# Altium schematic symbol library kmilo17pet-TI_MSP430.SchLib: 1463 symbols (part 73 of 130)
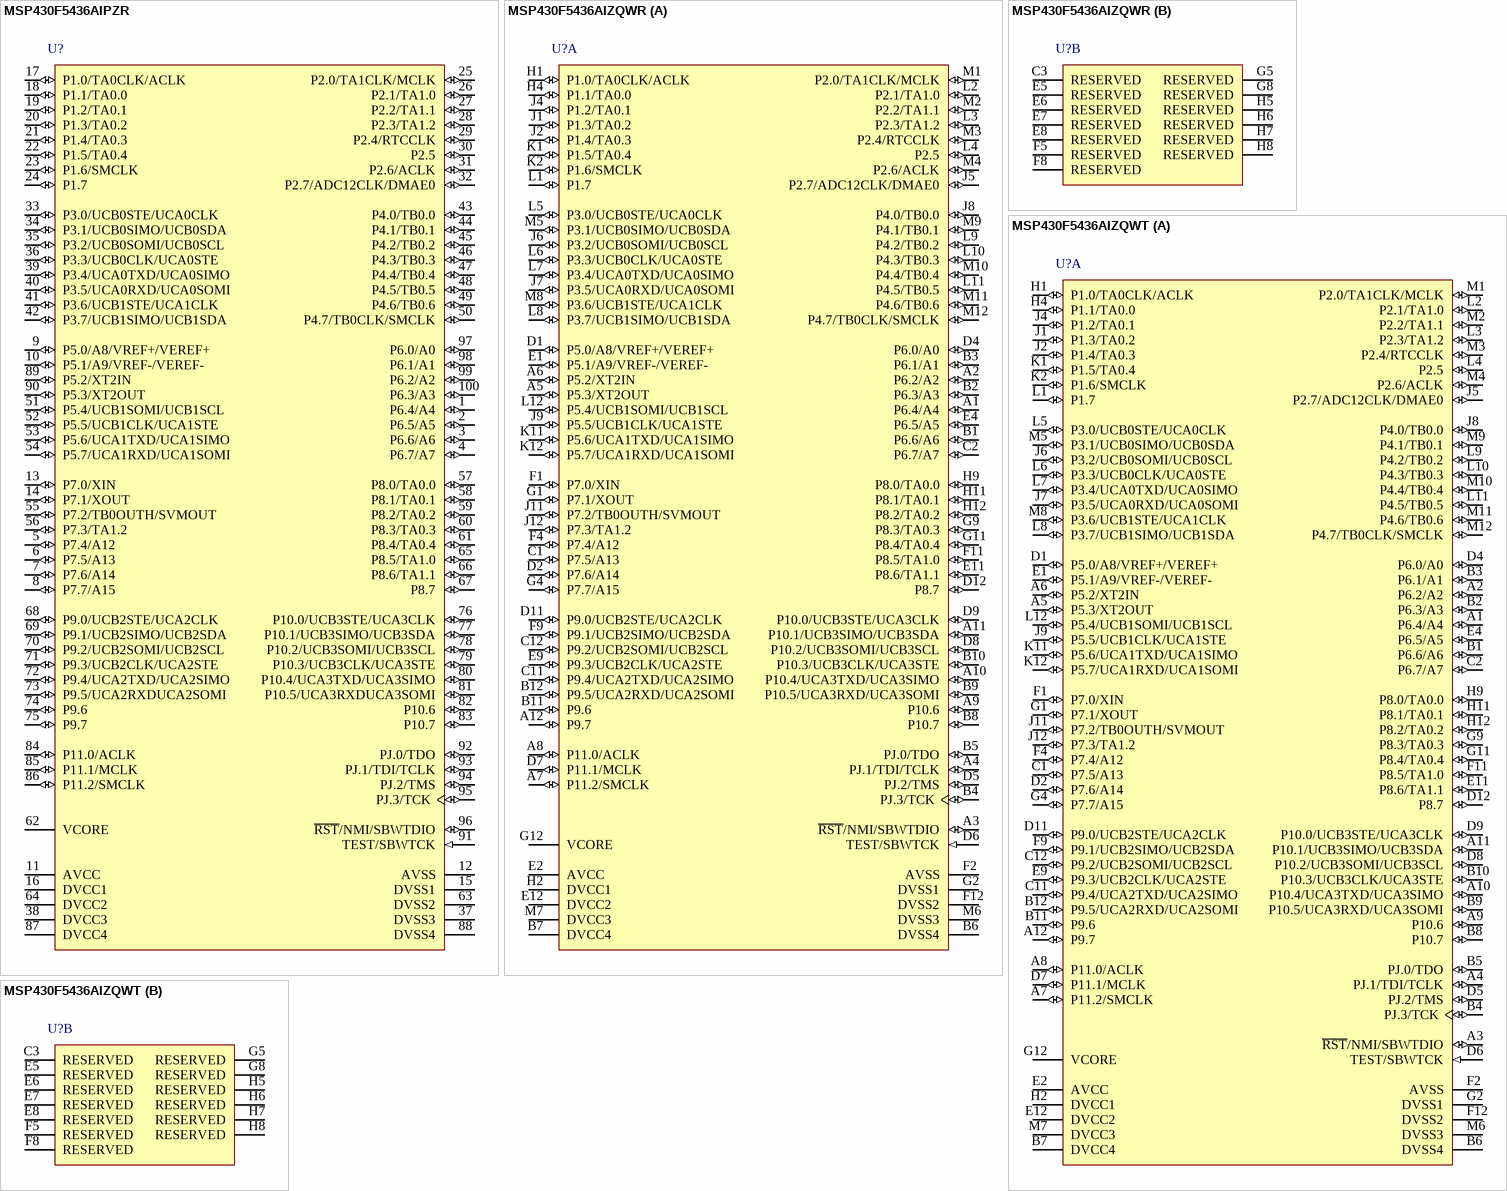
[diagram p272: symbols MSP430F5436AIPZR to MSP430F5436AIZQWT]

## MSP430F5436AIZQWT
designator U?
25 MHz Mixed Signal Microcontroller with 192 KB Flash, 16384 B SRAM and 87 GPIOs, -40 to 85 degC, 113-pin BGA (ZQW), Green (RoHS & no Sb/Br); Manufacturer: Texas Instruments; PartNumber: MSP430F5436AIZQWT; ADC: 12-bit SAR; ADC Channels: 16; Brown Out Reset: Yes; DMA: 3; Flash(KB): 192; Frequency(MHz): 25; GPIO: 87; Multiplier: 32x32; SRAM(B): 16384; SubFamily: 5 Series; USCI_A (UART/LIN/IrDA/SPI): 4; DatasheetVersion: SLAS655B; PackageVersion: 4204599-3/D; PackageReference: ZQW113; PackageDescription: 113-Pin Plastic Ball Grid Array Package, Body 7 x 7 mm, Pitch 0.5 mm; Supplier 1: Digi-Key; Supplier Part Number 1: MSP430F5436AIZQWR-ND; Supplier 2: Newark; Supplier Part Number 2: 68R9300; Supplier 3: Mouser; Supplier Part Number 3: 595-SP430F5436AIZQWR; Eco-Plan: Green (RoHS & no Sb/Br); Real-Time Clock: Yes; SVS: Yes; Temp Sensor: Yes; Timers - 16-bit: 3; USCI_B (I2C & SPI): 4; Watchdog: Yes; Mounting Technology: Surface Mount; Code_JEDEC: MO-225; ComponentLink1Description: Manufacturer URL; ComponentLink1URL: http://www.ti.com/; ComponentLink2Description: Datasheet; ComponentLink2URL: http://www.ti.com/general/docs/lit/getliterature.tsp?genericPartNumber=MSP430F5436A&fileType=pdf; ComponentLink3Description: Package Specification; ComponentLink3URL: http://www.ti.com/lit/ml/mpbg674/mpbg674.pdf
footprint TI-ZQW113 (BGA, 113-Balls, Body 7x7mm, Pitch 0.5mm)
part A pins: A1 P6.4/A4 (io), A2 P6.2/A2 (io), A3 ~{RST}/NMI/SBWTDIO (io), A4 PJ.1/TDI/TCLK (io), A5 P5.3/XT2OUT (io), A6 P5.2/XT2IN (io), A7 P11.2/SMCLK (io), A8 P11.0/ACLK (io), A9 P10.6 (io) "General-purpose digital I/O", A10 P10.4/UCA3TXD/UCA3SIMO (io), A11 P10.1/UCB3SIMO/UCB3SDA (io), A12 P9.7 (io) "General-purpose digital I/O", B1 P6.6/A6 (io), B2 P6.3/A3 (io), B3 P6.1/A1 (io), B4 PJ.3/TCK (io), B5 PJ.0/TDO (io), B6 DVSS4 (power) "Digital ground supply", B7 DVCC4 (power) "Digital power supply", B8 P10.7 (io) "General-purpose digital I/O", B9 P10.5/UCA3RXD/UCA3SOMI (io), B10 P10.3/UCB3CLK/UCA3STE (io), B11 P9.6 (io) "General-purpose digital I/O", B12 P9.5/UCA2RXD/UCA2SOMI (io), C1 P7.5/A13 (io), C2 P6.7/A7 (io), C11 P9.4/UCA2TXD/UCA2SIMO (io), C12 P9.2/UCB2SOMI/UCB2SCL (io), D1 P5.0/A8/VREF+/VEREF+ (io), D2 P7.6/A14 (io), D4 P6.0/A0 (io), D5 PJ.2/TMS (io), D6 TEST/SBWTCK (in), D7 P11.1/MCLK (io), D8 P10.2/UCB3SOMI/UCB3SCL (io), D9 P10.0/UCB3STE/UCA3CLK (io), D11 P9.0/UCB2STE/UCA2CLK (io), D12 P8.7 (io) "General-purpose digital I/O", E1 P5.1/A9/VREF-/VEREF- (io), E2 AVCC (power) "Analog power supply", E4 P6.5/A5 (io), E9 P9.3/UCB2CLK/UCA2STE (io), E11 P8.6/TA1.1 (io), E12 DVCC2 (power) "Digital power supply", F1 P7.0/XIN (io), F2 AVSS (power) "Analog ground supply", F4 P7.4/A12 (io), F9 P9.1/UCB2SIMO/UCB2SDA (io), F11 P8.5/TA1.0 (io), F12 DVSS2 (power) "Digital ground supply", G1 P7.1/XOUT (io), G2 DVSS1 (power) "Digital ground supply", G4 P7.7/A15 (io), G9 P8.3/TA0.3 (io), G11 P8.4/TA0.4 (io), G12 VCORE "Regulated core power supply output (internal usage only, no external current loading)", H1 P1.0/TA0CLK/ACLK (io), H2 DVCC1 (power) "Digital power supply", H4 P1.1/TA0.0 (io), H9 P8.0/TA0.0 (io), H11 P8.1/TA0.1 (io), H12 P8.2/TA0.2 (io), J1 P1.3/TA0.2 (io), J2 P1.4/TA0.3 (io), J4 P1.2/TA0.1 (io), J5 P2.7/ADC12CLK/DMAE0 (io), J6 P3.2/UCB0SOMI/UCB0SCL (io), J7 P3.5/UCA0RXD/UCA0SOMI (io), J8 P4.0/TB0.0 (io), J9 P5.5/UCB1CLK/UCA1STE (io), J11 P7.2/TB0OUTH/SVMOUT (io), J12 P7.3/TA1.2 (io), K1 P1.5/TA0.4 (io), K2 P1.6/SMCLK (io), K11 P5.6/UCA1TXD/UCA1SIMO (io), K12 P5.7/UCA1RXD/UCA1SOMI (io), L1 P1.7 (io) "General-purpose digital I/O", L2 P2.1/TA1.0 (io), L3 P2.3/TA1.2 (io), L4 P2.5 (io) "General-purpose digital I/O", L5 P3.0/UCB0STE/UCA0CLK (io), L6 P3.3/UCB0CLK/UCA0STE (io), L7 P3.4/UCA0TXD/UCA0SIMO (io), L8 P3.7/UCB1SIMO/UCB1SDA (io), L9 P4.2/TB0.2 (io), L10 P4.3/TB0.3 (io), L11 P4.5/TB0.5 (io), L12 P5.4/UCB1SOMI/UCB1SCL (io), M1 P2.0/TA1CLK/MCLK (io), M2 P2.2/TA1.1 (io), M3 P2.4/RTCCLK (io), M4 P2.6/ACLK (io), M5 P3.1/UCB0SIMO/UCB0SDA (io), M6 DVSS3 (power) "Digital ground supply", M7 DVCC3 (power) "Digital power supply", M8 P3.6/UCB1STE/UCA1CLK (io), M9 P4.1/TB0.1 (io), M10 P4.4/TB0.4 (io), M11 P4.6/TB0.6 (io), M12 P4.7/TB0CLK/SMCLK (io)
part B pins: C3 RESERVED "Reserved and should be connected to ground.", E5 RESERVED "Reserved and should be connected to ground.", E6 RESERVED "Reserved and should be connected to ground.", E7 RESERVED "Reserved and should be connected to ground.", E8 RESERVED "Reserved and should be connected to ground.", F5 RESERVED "Reserved and should be connected to ground.", F8 RESERVED "Reserved and should be connected to ground.", G5 RESERVED "Reserved and should be connected to ground.", G8 RESERVED "Reserved and should be connected to ground.", H5 RESERVED "Reserved and should be connected to ground.", H6 RESERVED "Reserved and should be connected to ground.", H7 RESERVED "Reserved and should be connected to ground.", H8 RESERVED "Reserved and should be connected to ground."

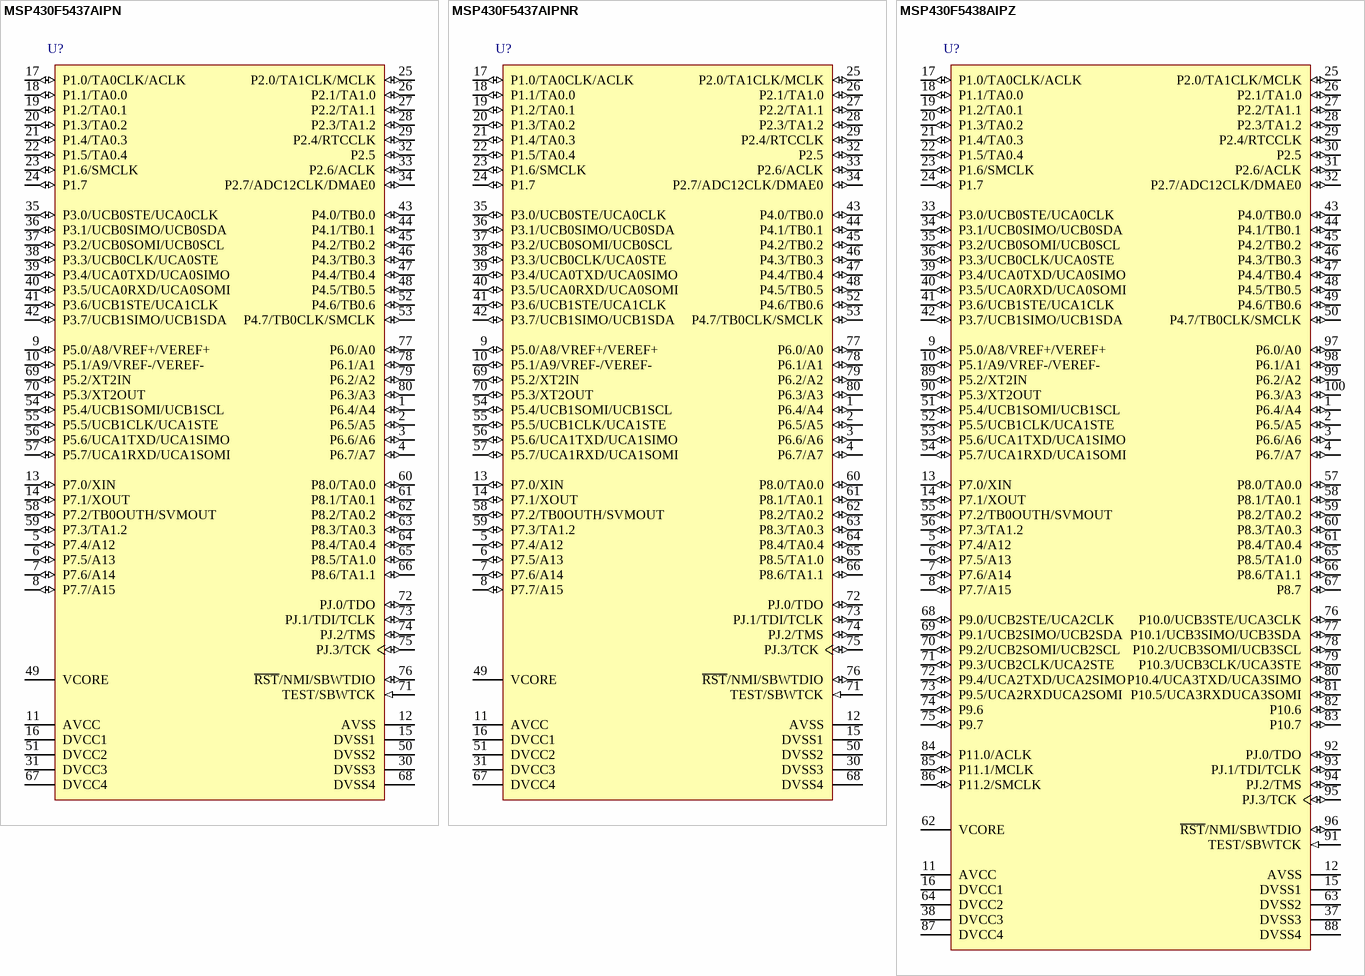
[diagram p111: symbols MSP430F5437AIPN to MSP430F5438AIPZ]

## MSP430F5437AIPN
designator U?
25 MHz Mixed Signal Microcontroller with 256 KB Flash, 16384 B SRAM and 67 GPIOs, -40 to 85 degC, 80-pin QFP (PN), Green (RoHS & no Sb/Br); Manufacturer: Texas Instruments; PartNumber: MSP430F5437AIPN; ADC: 12-bit SAR; ADC Channels: 16; Brown Out Reset: Yes; DMA: 3; Flash(KB): 256; Frequency(MHz): 25; GPIO: 67; Multiplier: 32x32; SRAM(B): 16384; SubFamily: 5 Series; USCI_A (UART/LIN/IrDA/SPI): 2; DatasheetVersion: SLAS655B; PackageReference: PN80; PackageDescription: 80-Pin Plastic Quad Flat Pack, Body 12 x 12 mm, Pitch 0.5 mm; Supplier 1: Digi-Key; Supplier Part Number 1: MSP430F5436AIZQWT-ND; Supplier 2: Newark; Supplier Part Number 2: 68R9301; Supplier 3: Mouser; Supplier Part Number 3: 595-SP430F5436AIZQWT; Eco-Plan: Green (RoHS & no Sb/Br); Real-Time Clock: Yes; SVS: Yes; Temp Sensor: Yes; Timers - 16-bit: 3; USCI_B (I2C & SPI): 2; Watchdog: Yes; Mounting Technology: Surface Mount; Code_JEDEC: MS-018; ComponentLink1Description: Manufacturer URL; ComponentLink1URL: http://www.ti.com/; ComponentLink2Description: Datasheet; ComponentLink2URL: http://www.ti.com/general/docs/lit/getliterature.tsp?genericPartNumber=MSP430F5437A&fileType=pdf; ComponentLink3Description: Package Specification; ComponentLink3URL: http://www.ti.com/lit/ml/mtqf010a/mtqf010a.pdf
footprint TI-PN80_N (QFP, 80-Leads, Body 12x12mm, Pitch 0.5mm, IPC Medium Density)
pins: 1 P6.4/A4 (io), 2 P6.5/A5 (io), 3 P6.6/A6 (io), 4 P6.7/A7 (io), 5 P7.4/A12 (io), 6 P7.5/A13 (io), 7 P7.6/A14 (io), 8 P7.7/A15 (io), 9 P5.0/A8/VREF+/VEREF+ (io), 10 P5.1/A9/VREF-/VEREF- (io), 11 AVCC (power) "Analog power supply", 12 AVSS (power) "Analog ground supply", 13 P7.0/XIN (io), 14 P7.1/XOUT (io), 15 DVSS1 (power) "Digital ground supply", 16 DVCC1 (power) "Digital power supply", 17 P1.0/TA0CLK/ACLK (io), 18 P1.1/TA0.0 (io), 19 P1.2/TA0.1 (io), 20 P1.3/TA0.2 (io), 21 P1.4/TA0.3 (io), 22 P1.5/TA0.4 (io), 23 P1.6/SMCLK (io), 24 P1.7 (io) "General-purpose digital I/O with port interrupt", 25 P2.0/TA1CLK/MCLK (io), 26 P2.1/TA1.0 (io), 27 P2.2/TA1.1 (io), 28 P2.3/TA1.2 (io), 29 P2.4/RTCCLK (io), 30 DVSS3 (power) "Digital ground supply", 31 DVCC3 (power) "Digital power supply", 32 P2.5 (io) "General-purpose digital I/O with port interrupt", 33 P2.6/ACLK (io), 34 P2.7/ADC12CLK/DMAE0 (io), 35 P3.0/UCB0STE/UCA0CLK (io), 36 P3.1/UCB0SIMO/UCB0SDA (io), 37 P3.2/UCB0SOMI/UCB0SCL (io), 38 P3.3/UCB0CLK/UCA0STE (io), 39 P3.4/UCA0TXD/UCA0SIMO (io), 40 P3.5/UCA0RXD/UCA0SOMI (io), 41 P3.6/UCB1STE/UCA1CLK (io), 42 P3.7/UCB1SIMO/UCB1SDA (io), 43 P4.0/TB0.0 (io), 44 P4.1/TB0.1 (io), 45 P4.2/TB0.2 (io), 46 P4.3/TB0.3 (io), 47 P4.4/TB0.4 (io), 48 P4.5/TB0.5 (io), 49 VCORE "Regulated core power supply output", 50 DVSS2 (power) "Digital ground supply", 51 DVCC2 (power) "Digital power supply", 52 P4.6/TB0.6 (io), 53 P4.7/TB0CLK/SMCLK (io), 54 P5.4/UCB1SOMI/UCB1SCL (io), 55 P5.5/UCB1CLK/UCA1STE (io), 56 P5.6/UCA1TXD/UCA1SIMO (io), 57 P5.7/UCA1RXD/UCA1SOMI (io), 58 P7.2/TB0OUTH/SVMOUT (io), 59 P7.3/TA1.2 (io), 60 P8.0/TA0.0 (io), 61 P8.1/TA0.1 (io), 62 P8.2/TA0.2 (io), 63 P8.3/TA0.3 (io), 64 P8.4/TA0.4 (io), 65 P8.5/TA1.0 (io), 66 P8.6/TA1.1 (io), 67 DVCC4 (power) "Digital power supply", 68 DVSS4 (power) "Digital ground supply", 69 P5.2/XT2IN (io), 70 P5.3/XT2OUT (io), 71 TEST/SBWTCK (in), 72 PJ.0/TDO (io), 73 PJ.1/TDI/TCLK (io), 74 PJ.2/TMS (io), 75 PJ.3/TCK (io), 76 ~{RST}/NMI/SBWTDIO (io), 77 P6.0/A0 (io), 78 P6.1/A1 (io), 79 P6.2/A2 (io), 80 P6.3/A3 (io)

## MSP430F5437AIPNR
designator U?
25 MHz Mixed Signal Microcontroller with 256 KB Flash, 16384 B SRAM and 67 GPIOs, -40 to 85 degC, 80-pin QFP (PN), Green (RoHS & no Sb/Br); Manufacturer: Texas Instruments; PartNumber: MSP430F5437AIPNR; ADC: 12-bit SAR; ADC Channels: 16; Brown Out Reset: Yes; DMA: 3; Flash(KB): 256; Frequency(MHz): 25; GPIO: 67; Multiplier: 32x32; SRAM(B): 16384; SubFamily: 5 Series; USCI_A (UART/LIN/IrDA/SPI): 2; DatasheetVersion: SLAS655B; PackageReference: PN80; PackageDescription: 80-Pin Plastic Quad Flat Pack, Body 12 x 12 mm, Pitch 0.5 mm; Supplier 1: Digi-Key; Supplier Part Number 1: 296-33440-5-ND; Supplier 2: Farnell; Supplier Part Number 2: 1903451; Supplier 3: Newark; Supplier Part Number 3: 58T4971; Supplier 4: Newark; Supplier Part Number 4: 68R9302; Supplier 5: Mouser; Supplier Part Number 5: 595-MSP430F5437AIPN; Eco-Plan: Green (RoHS & no Sb/Br); Real-Time Clock: Yes; SVS: Yes; Temp Sensor: Yes; Timers - 16-bit: 3; USCI_B (I2C & SPI): 2; Watchdog: Yes; Mounting Technology: Surface Mount; Code_JEDEC: MS-018; ComponentLink1Description: Manufacturer URL; ComponentLink1URL: http://www.ti.com/; ComponentLink2Description: Datasheet; ComponentLink2URL: http://www.ti.com/general/docs/lit/getliterature.tsp?genericPartNumber=MSP430F5437A&fileType=pdf; ComponentLink3Description: Package Specification; ComponentLink3URL: http://www.ti.com/lit/ml/mtqf010a/mtqf010a.pdf
footprint TI-PN80_N (QFP, 80-Leads, Body 12x12mm, Pitch 0.5mm, IPC Medium Density)
pins: 1 P6.4/A4 (io), 2 P6.5/A5 (io), 3 P6.6/A6 (io), 4 P6.7/A7 (io), 5 P7.4/A12 (io), 6 P7.5/A13 (io), 7 P7.6/A14 (io), 8 P7.7/A15 (io), 9 P5.0/A8/VREF+/VEREF+ (io), 10 P5.1/A9/VREF-/VEREF- (io), 11 AVCC (power) "Analog power supply", 12 AVSS (power) "Analog ground supply", 13 P7.0/XIN (io), 14 P7.1/XOUT (io), 15 DVSS1 (power) "Digital ground supply", 16 DVCC1 (power) "Digital power supply", 17 P1.0/TA0CLK/ACLK (io), 18 P1.1/TA0.0 (io), 19 P1.2/TA0.1 (io), 20 P1.3/TA0.2 (io), 21 P1.4/TA0.3 (io), 22 P1.5/TA0.4 (io), 23 P1.6/SMCLK (io), 24 P1.7 (io) "General-purpose digital I/O with port interrupt", 25 P2.0/TA1CLK/MCLK (io), 26 P2.1/TA1.0 (io), 27 P2.2/TA1.1 (io), 28 P2.3/TA1.2 (io), 29 P2.4/RTCCLK (io), 30 DVSS3 (power) "Digital ground supply", 31 DVCC3 (power) "Digital power supply", 32 P2.5 (io) "General-purpose digital I/O with port interrupt", 33 P2.6/ACLK (io), 34 P2.7/ADC12CLK/DMAE0 (io), 35 P3.0/UCB0STE/UCA0CLK (io), 36 P3.1/UCB0SIMO/UCB0SDA (io), 37 P3.2/UCB0SOMI/UCB0SCL (io), 38 P3.3/UCB0CLK/UCA0STE (io), 39 P3.4/UCA0TXD/UCA0SIMO (io), 40 P3.5/UCA0RXD/UCA0SOMI (io), 41 P3.6/UCB1STE/UCA1CLK (io), 42 P3.7/UCB1SIMO/UCB1SDA (io), 43 P4.0/TB0.0 (io), 44 P4.1/TB0.1 (io), 45 P4.2/TB0.2 (io), 46 P4.3/TB0.3 (io), 47 P4.4/TB0.4 (io), 48 P4.5/TB0.5 (io), 49 VCORE "Regulated core power supply output", 50 DVSS2 (power) "Digital ground supply", 51 DVCC2 (power) "Digital power supply", 52 P4.6/TB0.6 (io), 53 P4.7/TB0CLK/SMCLK (io), 54 P5.4/UCB1SOMI/UCB1SCL (io), 55 P5.5/UCB1CLK/UCA1STE (io), 56 P5.6/UCA1TXD/UCA1SIMO (io), 57 P5.7/UCA1RXD/UCA1SOMI (io), 58 P7.2/TB0OUTH/SVMOUT (io), 59 P7.3/TA1.2 (io), 60 P8.0/TA0.0 (io), 61 P8.1/TA0.1 (io), 62 P8.2/TA0.2 (io), 63 P8.3/TA0.3 (io), 64 P8.4/TA0.4 (io), 65 P8.5/TA1.0 (io), 66 P8.6/TA1.1 (io), 67 DVCC4 (power) "Digital power supply", 68 DVSS4 (power) "Digital ground supply", 69 P5.2/XT2IN (io), 70 P5.3/XT2OUT (io), 71 TEST/SBWTCK (in), 72 PJ.0/TDO (io), 73 PJ.1/TDI/TCLK (io), 74 PJ.2/TMS (io), 75 PJ.3/TCK (io), 76 ~{RST}/NMI/SBWTDIO (io), 77 P6.0/A0 (io), 78 P6.1/A1 (io), 79 P6.2/A2 (io), 80 P6.3/A3 (io)

## MSP430F5438AIPZ
designator U?
25 MHz Mixed Signal Microcontroller with 256 KB Flash, 16384 B SRAM and 87 GPIOs, -40 to 85 degC, 100-pin QFP (PZ), Green (RoHS & no Sb/Br); Manufacturer: Texas Instruments; PartNumber: MSP430F5438AIPZ; ADC: 12-bit SAR; ADC Channels: 16; Brown Out Reset: Yes; DMA: 3; Flash(KB): 256; Frequency(MHz): 25; GPIO: 87; Multiplier: 32x32; SRAM(B): 16384; SubFamily: 5 Series; USCI_A (UART/LIN/IrDA/SPI): 4; DatasheetVersion: SLAS655B; PackageVersion: 4040149/B; PackageReference: PZ100; PackageDescription: 100-Pin Plastic Flat Pack, Body 14 x 14 mm, Pitch 0.5 mm; Supplier 1: Digi-Key; Supplier Part Number 1: MSP430F5437AIPNR-ND; Supplier 2: Newark; Supplier Part Number 2: 68R9303; Supplier 3: Mouser; Supplier Part Number 3: 595-MSP430F5437AIPNR; Eco-Plan: Green (RoHS & no Sb/Br); Real-Time Clock: Yes; SVS: Yes; Temp Sensor: Yes; Timers - 16-bit: 3; USCI_B (I2C & SPI): 4; Watchdog: Yes; Mounting Technology: Surface Mount; Code_JEDEC: MS-026; ComponentLink1Description: Manufacturer URL; ComponentLink1URL: http://www.ti.com/; ComponentLink2Description: Datasheet; ComponentLink2URL: http://www.ti.com/general/docs/lit/getliterature.tsp?genericPartNumber=MSP430F5438A&fileType=pdf; ComponentLink3Description: Package Specification; ComponentLink3URL: http://www.ti.com/lit/ml/mtqf013a/mtqf013a.pdf
footprint TI-PZ100_N (QFP, 100-Leads, Body 14x14mm, Pitch 0.5mm, IPC Medium Density)
pins: 1 P6.4/A4 (io), 2 P6.5/A5 (io), 3 P6.6/A6 (io), 4 P6.7/A7 (io), 5 P7.4/A12 (io), 6 P7.5/A13 (io), 7 P7.6/A14 (io), 8 P7.7/A15 (io), 9 P5.0/A8/VREF+/VEREF+ (io), 10 P5.1/A9/VREF-/VEREF- (io), 11 AVCC (power) "Analog power supply", 12 AVSS (power) "Analog ground supply", 13 P7.0/XIN (io), 14 P7.1/XOUT (io), 15 DVSS1 (power) "Digital ground supply", 16 DVCC1 (power) "Digital power supply", 17 P1.0/TA0CLK/ACLK (io), 18 P1.1/TA0.0 (io), 19 P1.2/TA0.1 (io), 20 P1.3/TA0.2 (io), 21 P1.4/TA0.3 (io), 22 P1.5/TA0.4 (io), 23 P1.6/SMCLK (io), 24 P1.7 (io) "General-purpose digital I/O with port interrupt", 25 P2.0/TA1CLK/MCLK (io), 26 P2.1/TA1.0 (io), 27 P2.2/TA1.1 (io), 28 P2.3/TA1.2 (io), 29 P2.4/RTCCLK (io), 30 P2.5 (io) "General-purpose digital I/O with port interrupt", 31 P2.6/ACLK (io), 32 P2.7/ADC12CLK/DMAE0 (io), 33 P3.0/UCB0STE/UCA0CLK (io), 34 P3.1/UCB0SIMO/UCB0SDA (io), 35 P3.2/UCB0SOMI/UCB0SCL (io), 36 P3.3/UCB0CLK/UCA0STE (io), 37 DVSS3 (power) "Digital ground supply", 38 DVCC3 (power) "Digital power supply", 39 P3.4/UCA0TXD/UCA0SIMO (io), 40 P3.5/UCA0RXD/UCA0SOMI (io), 41 P3.6/UCB1STE/UCA1CLK (io), 42 P3.7/UCB1SIMO/UCB1SDA (io), 43 P4.0/TB0.0 (io), 44 P4.1/TB0.1 (io), 45 P4.2/TB0.2 (io), 46 P4.3/TB0.3 (io), 47 P4.4/TB0.4 (io), 48 P4.5/TB0.5 (io), 49 P4.6/TB0.6 (io), 50 P4.7/TB0CLK/SMCLK (io), 51 P5.4/UCB1SOMI/UCB1SCL (io), 52 P5.5/UCB1CLK/UCA1STE (io), 53 P5.6/UCA1TXD/UCA1SIMO (io), 54 P5.7/UCA1RXD/UCA1SOMI (io), 55 P7.2/TB0OUTH/SVMOUT (io), 56 P7.3/TA1.2 (io), 57 P8.0/TA0.0 (io), 58 P8.1/TA0.1 (io), 59 P8.2/TA0.2 (io), 60 P8.3/TA0.3 (io), 61 P8.4/TA0.4 (io), 62 VCORE "Regulated core power supply output (internal usage only, no external current loading)", 63 DVSS2 (power) "Digital ground supply", 64 DVCC2 (power) "Digital power supply", 65 P8.5/TA1.0 (io), 66 P8.6/TA1.1 (io), 67 P8.7 (io) "General-purpose digital I/O", 68 P9.0/UCB2STE/UCA2CLK (io), 69 P9.1/UCB2SIMO/UCB2SDA (io), 70 P9.2/UCB2SOMI/UCB2SCL (io), 71 P9.3/UCB2CLK/UCA2STE (io), 72 P9.4/UCA2TXD/UCA2SIMO (io), 73 P9.5/UCA2RXDUCA2SOMI (io), 74 P9.6 (io) "General-purpose digital I/O", 75 P9.7 (io) "General-purpose digital I/O", 76 P10.0/UCB3STE/UCA3CLK (io), 77 P10.1/UCB3SIMO/UCB3SDA (io), 78 P10.2/UCB3SOMI/UCB3SCL (io), 79 P10.3/UCB3CLK/UCA3STE (io), 80 P10.4/UCA3TXD/UCA3SIMO (io), 81 P10.5/UCA3RXDUCA3SOMI (io), 82 P10.6 (io) "General-purpose digital I/O", 83 P10.7 (io) "General-purpose digital I/O", 84 P11.0/ACLK (io), 85 P11.1/MCLK (io), 86 P11.2/SMCLK (io), 87 DVCC4 (power) "Digital power supply", 88 DVSS4 (power) "Digital ground supply", 89 P5.2/XT2IN (io), 90 P5.3/XT2OUT (io), 91 TEST/SBWTCK (in), 92 PJ.0/TDO (io), 93 PJ.1/TDI/TCLK (io), 94 PJ.2/TMS (io), 95 PJ.3/TCK (io), 96 ~{RST}/NMI/SBWTDIO (io), 97 P6.0/A0 (io), 98 P6.1/A1 (io), 99 P6.2/A2 (io), 100 P6.3/A3 (io)

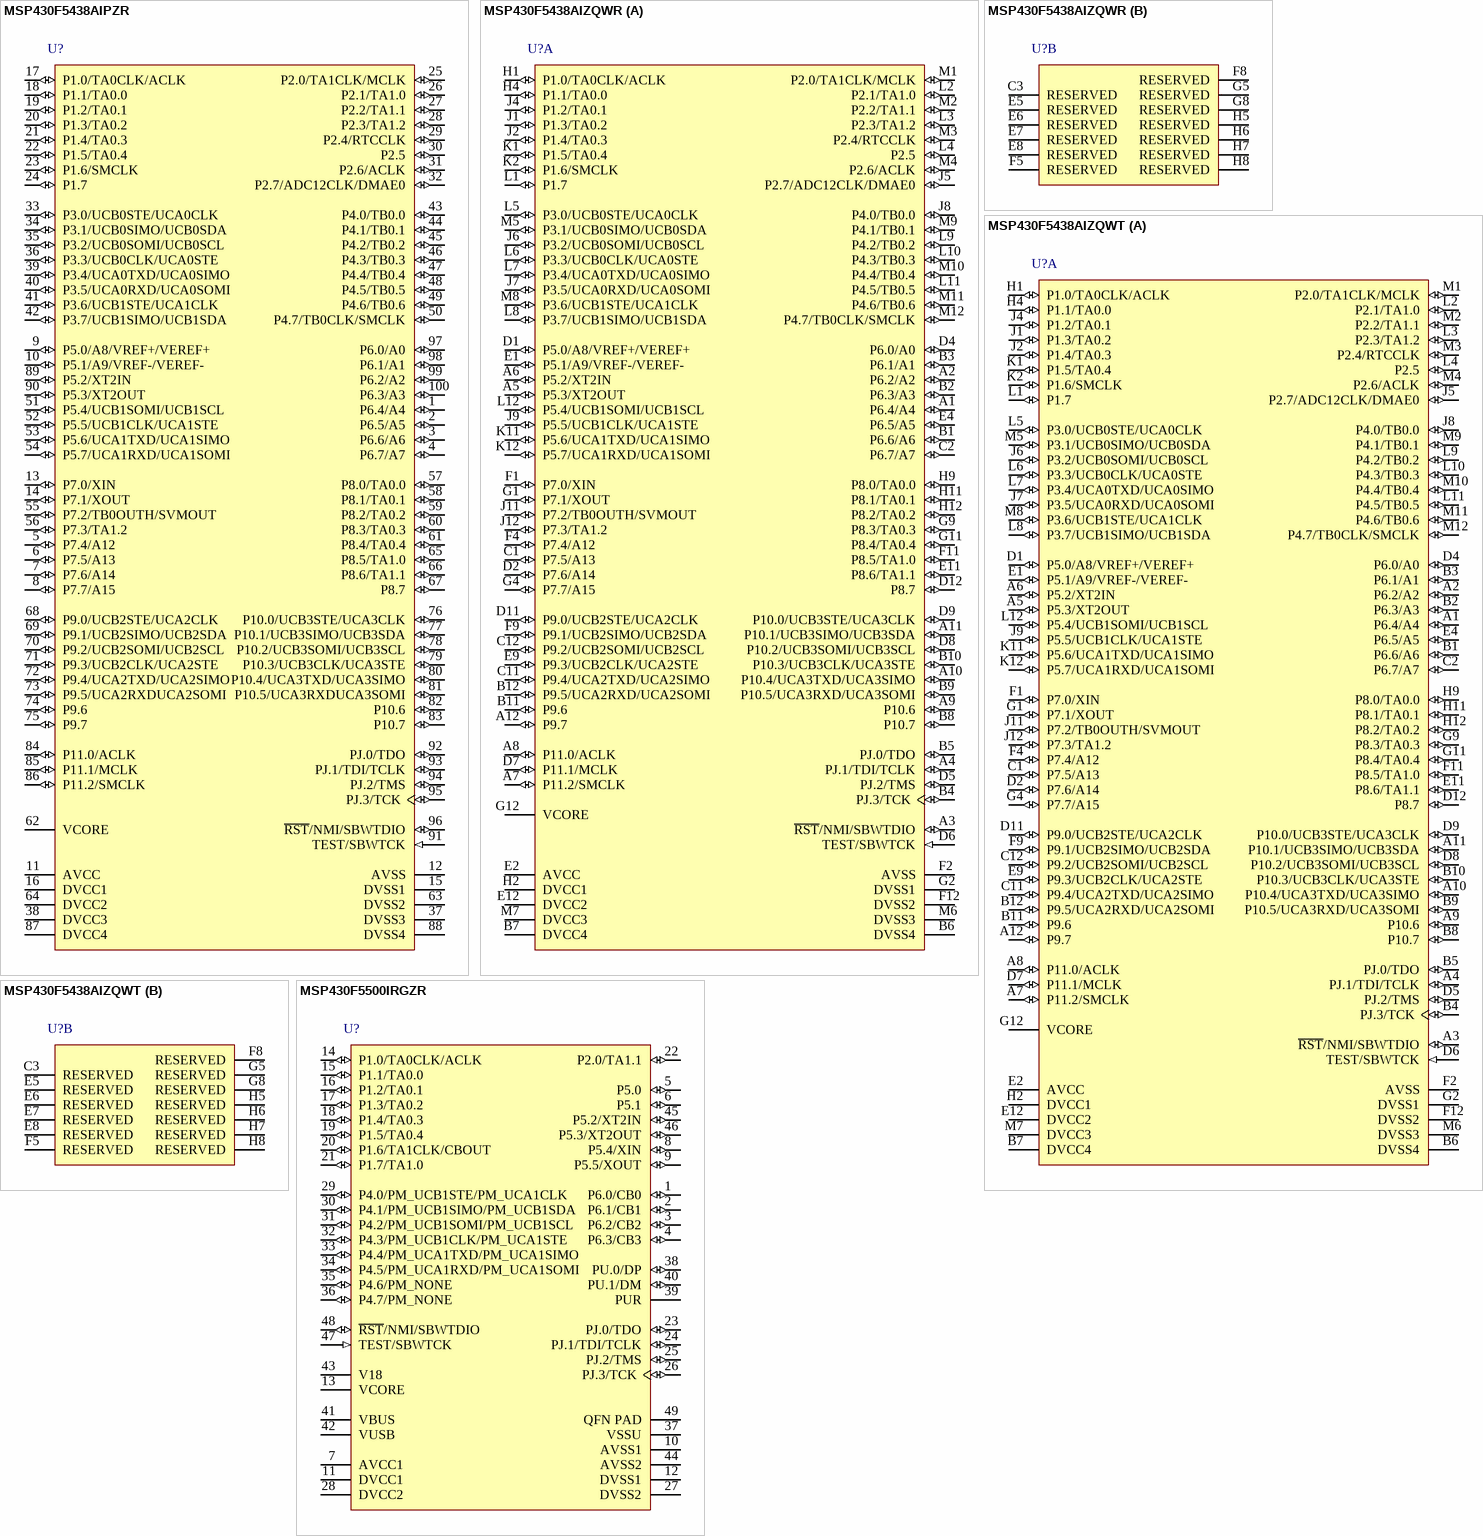
[diagram p112: symbols MSP430F5438AIPZR to MSP430F5500IRGZR]

## MSP430F5438AIPZR
designator U?
25 MHz Mixed Signal Microcontroller with 256 KB Flash, 16384 B SRAM and 87 GPIOs, -40 to 85 degC, 100-pin QFP (PZ), Green (RoHS & no Sb/Br); Manufacturer: Texas Instruments; PartNumber: MSP430F5438AIPZR; ADC: 12-bit SAR; ADC Channels: 16; Brown Out Reset: Yes; DMA: 3; Flash(KB): 256; Frequency(MHz): 25; GPIO: 87; Multiplier: 32x32; SRAM(B): 16384; SubFamily: 5 Series; USCI_A (UART/LIN/IrDA/SPI): 4; DatasheetVersion: SLAS655B; PackageVersion: 4040149/B; PackageReference: PZ100; PackageDescription: 100-Pin Plastic Flat Pack, Body 14 x 14 mm, Pitch 0.5 mm; Supplier 1: Digi-Key; Supplier Part Number 1: 296-30513-5-ND; Supplier 2: Farnell; Supplier Part Number 2: 1903452; Supplier 3: Newark; Supplier Part Number 3: 68R9304; Supplier 4: Mouser; Supplier Part Number 4: 595-MSP430F5438AIPZ; Eco-Plan: Green (RoHS & no Sb/Br); Real-Time Clock: Yes; SVS: Yes; Temp Sensor: Yes; Timers - 16-bit: 3; USCI_B (I2C & SPI): 4; Watchdog: Yes; Mounting Technology: Surface Mount; Code_JEDEC: MS-026; ComponentLink1Description: Manufacturer URL; ComponentLink1URL: http://www.ti.com/; ComponentLink2Description: Datasheet; ComponentLink2URL: http://www.ti.com/general/docs/lit/getliterature.tsp?genericPartNumber=MSP430F5438A&fileType=pdf; ComponentLink3Description: Package Specification; ComponentLink3URL: http://www.ti.com/lit/ml/mtqf013a/mtqf013a.pdf
footprint TI-PZ100_N (QFP, 100-Leads, Body 14x14mm, Pitch 0.5mm, IPC Medium Density)
pins: 1 P6.4/A4 (io), 2 P6.5/A5 (io), 3 P6.6/A6 (io), 4 P6.7/A7 (io), 5 P7.4/A12 (io), 6 P7.5/A13 (io), 7 P7.6/A14 (io), 8 P7.7/A15 (io), 9 P5.0/A8/VREF+/VEREF+ (io), 10 P5.1/A9/VREF-/VEREF- (io), 11 AVCC (power) "Analog power supply", 12 AVSS (power) "Analog ground supply", 13 P7.0/XIN (io), 14 P7.1/XOUT (io), 15 DVSS1 (power) "Digital ground supply", 16 DVCC1 (power) "Digital power supply", 17 P1.0/TA0CLK/ACLK (io), 18 P1.1/TA0.0 (io), 19 P1.2/TA0.1 (io), 20 P1.3/TA0.2 (io), 21 P1.4/TA0.3 (io), 22 P1.5/TA0.4 (io), 23 P1.6/SMCLK (io), 24 P1.7 (io) "General-purpose digital I/O with port interrupt", 25 P2.0/TA1CLK/MCLK (io), 26 P2.1/TA1.0 (io), 27 P2.2/TA1.1 (io), 28 P2.3/TA1.2 (io), 29 P2.4/RTCCLK (io), 30 P2.5 (io) "General-purpose digital I/O with port interrupt", 31 P2.6/ACLK (io), 32 P2.7/ADC12CLK/DMAE0 (io), 33 P3.0/UCB0STE/UCA0CLK (io), 34 P3.1/UCB0SIMO/UCB0SDA (io), 35 P3.2/UCB0SOMI/UCB0SCL (io), 36 P3.3/UCB0CLK/UCA0STE (io), 37 DVSS3 (power) "Digital ground supply", 38 DVCC3 (power) "Digital power supply", 39 P3.4/UCA0TXD/UCA0SIMO (io), 40 P3.5/UCA0RXD/UCA0SOMI (io), 41 P3.6/UCB1STE/UCA1CLK (io), 42 P3.7/UCB1SIMO/UCB1SDA (io), 43 P4.0/TB0.0 (io), 44 P4.1/TB0.1 (io), 45 P4.2/TB0.2 (io), 46 P4.3/TB0.3 (io), 47 P4.4/TB0.4 (io), 48 P4.5/TB0.5 (io), 49 P4.6/TB0.6 (io), 50 P4.7/TB0CLK/SMCLK (io), 51 P5.4/UCB1SOMI/UCB1SCL (io), 52 P5.5/UCB1CLK/UCA1STE (io), 53 P5.6/UCA1TXD/UCA1SIMO (io), 54 P5.7/UCA1RXD/UCA1SOMI (io), 55 P7.2/TB0OUTH/SVMOUT (io), 56 P7.3/TA1.2 (io), 57 P8.0/TA0.0 (io), 58 P8.1/TA0.1 (io), 59 P8.2/TA0.2 (io), 60 P8.3/TA0.3 (io), 61 P8.4/TA0.4 (io), 62 VCORE "Regulated core power supply output (internal usage only, no external current loading)", 63 DVSS2 (power) "Digital ground supply", 64 DVCC2 (power) "Digital power supply", 65 P8.5/TA1.0 (io), 66 P8.6/TA1.1 (io), 67 P8.7 (io) "General-purpose digital I/O", 68 P9.0/UCB2STE/UCA2CLK (io), 69 P9.1/UCB2SIMO/UCB2SDA (io), 70 P9.2/UCB2SOMI/UCB2SCL (io), 71 P9.3/UCB2CLK/UCA2STE (io), 72 P9.4/UCA2TXD/UCA2SIMO (io), 73 P9.5/UCA2RXDUCA2SOMI (io), 74 P9.6 (io) "General-purpose digital I/O", 75 P9.7 (io) "General-purpose digital I/O", 76 P10.0/UCB3STE/UCA3CLK (io), 77 P10.1/UCB3SIMO/UCB3SDA (io), 78 P10.2/UCB3SOMI/UCB3SCL (io), 79 P10.3/UCB3CLK/UCA3STE (io), 80 P10.4/UCA3TXD/UCA3SIMO (io), 81 P10.5/UCA3RXDUCA3SOMI (io), 82 P10.6 (io) "General-purpose digital I/O", 83 P10.7 (io) "General-purpose digital I/O", 84 P11.0/ACLK (io), 85 P11.1/MCLK (io), 86 P11.2/SMCLK (io), 87 DVCC4 (power) "Digital power supply", 88 DVSS4 (power) "Digital ground supply", 89 P5.2/XT2IN (io), 90 P5.3/XT2OUT (io), 91 TEST/SBWTCK (in), 92 PJ.0/TDO (io), 93 PJ.1/TDI/TCLK (io), 94 PJ.2/TMS (io), 95 PJ.3/TCK (io), 96 ~{RST}/NMI/SBWTDIO (io), 97 P6.0/A0 (io), 98 P6.1/A1 (io), 99 P6.2/A2 (io), 100 P6.3/A3 (io)

## MSP430F5438AIZQWR
designator U?
25 MHz Mixed Signal Microcontroller with 256 KB Flash, 16384 B SRAM and 87 GPIOs, -40 to 85 degC, 113-pin BGA (ZQW), Green (RoHS & no Sb/Br); Manufacturer: Texas Instruments; PartNumber: MSP430F5438AIZQWR; ADC: 12-bit SAR; ADC Channels: 16; Brown Out Reset: Yes; DMA: 3; Flash(KB): 256; Frequency(MHz): 25; GPIO: 87; Multiplier: 32x32; SRAM(B): 16384; SubFamily: 5 Series; USCI_A (UART/LIN/IrDA/SPI): 4; DatasheetVersion: SLAS655B; PackageVersion: 4204599-3/D; PackageReference: ZQW113; PackageDescription: 113-Pin Plastic Ball Grid Array Package, Body 7 x 7 mm, Pitch 0.5 mm; Supplier 1: Digi-Key; Supplier Part Number 1: MSP430F5438AIPZR-ND; Supplier 2: Newark; Supplier Part Number 2: 68R9305; Supplier 3: Mouser; Supplier Part Number 3: 595-MSP430F5438AIPZR; Eco-Plan: Green (RoHS & no Sb/Br); Real-Time Clock: Yes; SVS: Yes; Temp Sensor: Yes; Timers - 16-bit: 3; USCI_B (I2C & SPI): 4; Watchdog: Yes; Mounting Technology: Surface Mount; Code_JEDEC: MO-225; ComponentLink1Description: Manufacturer URL; ComponentLink1URL: http://www.ti.com/; ComponentLink2Description: Datasheet; ComponentLink2URL: http://www.ti.com/general/docs/lit/getliterature.tsp?genericPartNumber=MSP430F5438A&fileType=pdf; ComponentLink3Description: Package Specification; ComponentLink3URL: http://www.ti.com/lit/ml/mpbg674/mpbg674.pdf
footprint TI-ZQW113 (BGA, 113-Balls, Body 7x7mm, Pitch 0.5mm)
part A pins: A1 P6.4/A4 (io), A2 P6.2/A2 (io), A3 ~{RST}/NMI/SBWTDIO (io), A4 PJ.1/TDI/TCLK (io), A5 P5.3/XT2OUT (io), A6 P5.2/XT2IN (io), A7 P11.2/SMCLK (io), A8 P11.0/ACLK (io), A9 P10.6 (io) "General-purpose digital I/O", A10 P10.4/UCA3TXD/UCA3SIMO (io), A11 P10.1/UCB3SIMO/UCB3SDA (io), A12 P9.7 (io) "General-purpose digital I/O", B1 P6.6/A6 (io), B2 P6.3/A3 (io), B3 P6.1/A1 (io), B4 PJ.3/TCK (io), B5 PJ.0/TDO (io), B6 DVSS4 (power) "Digital ground supply", B7 DVCC4 (power) "Digital power supply", B8 P10.7 (io) "General-purpose digital I/O", B9 P10.5/UCA3RXD/UCA3SOMI (io), B10 P10.3/UCB3CLK/UCA3STE (io), B11 P9.6 (io) "General-purpose digital I/O", B12 P9.5/UCA2RXD/UCA2SOMI (io), C1 P7.5/A13 (io), C2 P6.7/A7 (io), C11 P9.4/UCA2TXD/UCA2SIMO (io), C12 P9.2/UCB2SOMI/UCB2SCL (io), D1 P5.0/A8/VREF+/VEREF+ (io), D2 P7.6/A14 (io), D4 P6.0/A0 (io), D5 PJ.2/TMS (io), D6 TEST/SBWTCK (in), D7 P11.1/MCLK (io), D8 P10.2/UCB3SOMI/UCB3SCL (io), D9 P10.0/UCB3STE/UCA3CLK (io), D11 P9.0/UCB2STE/UCA2CLK (io), D12 P8.7 (io) "General-purpose digital I/O", E1 P5.1/A9/VREF-/VEREF- (io), E2 AVCC (power) "Analog power supply", E4 P6.5/A5 (io), E9 P9.3/UCB2CLK/UCA2STE (io), E11 P8.6/TA1.1 (io), E12 DVCC2 (power) "Digital power supply", F1 P7.0/XIN (io), F2 AVSS (power) "Analog ground supply", F4 P7.4/A12 (io), F9 P9.1/UCB2SIMO/UCB2SDA (io), F11 P8.5/TA1.0 (io), F12 DVSS2 (power) "Digital ground supply", G1 P7.1/XOUT (io), G2 DVSS1 (power) "Digital ground supply", G4 P7.7/A15 (io), G9 P8.3/TA0.3 (io), G11 P8.4/TA0.4 (io), G12 VCORE "Regulated core power supply output (internal usage only, no external current loading)", H1 P1.0/TA0CLK/ACLK (io), H2 DVCC1 (power) "Digital power supply", H4 P1.1/TA0.0 (io), H9 P8.0/TA0.0 (io), H11 P8.1/TA0.1 (io), H12 P8.2/TA0.2 (io), J1 P1.3/TA0.2 (io), J2 P1.4/TA0.3 (io), J4 P1.2/TA0.1 (io), J5 P2.7/ADC12CLK/DMAE0 (io), J6 P3.2/UCB0SOMI/UCB0SCL (io), J7 P3.5/UCA0RXD/UCA0SOMI (io), J8 P4.0/TB0.0 (io), J9 P5.5/UCB1CLK/UCA1STE (io), J11 P7.2/TB0OUTH/SVMOUT (io), J12 P7.3/TA1.2 (io), K1 P1.5/TA0.4 (io), K2 P1.6/SMCLK (io), K11 P5.6/UCA1TXD/UCA1SIMO (io), K12 P5.7/UCA1RXD/UCA1SOMI (io), L1 P1.7 (io) "General-purpose digital I/O with port interrupt", L2 P2.1/TA1.0 (io), L3 P2.3/TA1.2 (io), L4 P2.5 (io) "General-purpose digital I/O with port interrupt", L5 P3.0/UCB0STE/UCA0CLK (io), L6 P3.3/UCB0CLK/UCA0STE (io), L7 P3.4/UCA0TXD/UCA0SIMO (io), L8 P3.7/UCB1SIMO/UCB1SDA (io), L9 P4.2/TB0.2 (io), L10 P4.3/TB0.3 (io), L11 P4.5/TB0.5 (io), L12 P5.4/UCB1SOMI/UCB1SCL (io), M1 P2.0/TA1CLK/MCLK (io), M2 P2.2/TA1.1 (io), M3 P2.4/RTCCLK (io), M4 P2.6/ACLK (io), M5 P3.1/UCB0SIMO/UCB0SDA (io), M6 DVSS3 (power) "Digital ground supply", M7 DVCC3 (power) "Digital power supply", M8 P3.6/UCB1STE/UCA1CLK (io), M9 P4.1/TB0.1 (io), M10 P4.4/TB0.4 (io), M11 P4.6/TB0.6 (io), M12 P4.7/TB0CLK/SMCLK (io)
part B pins: C3 RESERVED "Reserved and should be connected to ground.", E5 RESERVED "Reserved and should be connected to ground.", E6 RESERVED "Reserved and should be connected to ground.", E7 RESERVED "Reserved and should be connected to ground.", E8 RESERVED "Reserved and should be connected to ground.", F5 RESERVED "Reserved and should be connected to ground.", F8 RESERVED "Reserved and should be connected to ground.", G5 RESERVED "Reserved and should be connected to ground.", G8 RESERVED "Reserved and should be connected to ground.", H5 RESERVED "Reserved and should be connected to ground.", H6 RESERVED "Reserved and should be connected to ground.", H7 RESERVED "Reserved and should be connected to ground.", H8 RESERVED "Reserved and should be connected to ground."

## MSP430F5438AIZQWT
designator U?
25 MHz Mixed Signal Microcontroller with 256 KB Flash, 16384 B SRAM and 87 GPIOs, -40 to 85 degC, 113-pin BGA (ZQW), Green (RoHS & no Sb/Br); Manufacturer: Texas Instruments; PartNumber: MSP430F5438AIZQWT; ADC: 12-bit SAR; ADC Channels: 16; Brown Out Reset: Yes; DMA: 3; Flash(KB): 256; Frequency(MHz): 25; GPIO: 87; Multiplier: 32x32; SRAM(B): 16384; SubFamily: 5 Series; USCI_A (UART/LIN/IrDA/SPI): 4; DatasheetVersion: SLAS655B; PackageVersion: 4204599-3/D; PackageReference: ZQW113; PackageDescription: 113-Pin Plastic Ball Grid Array Package, Body 7 x 7 mm, Pitch 0.5 mm; Supplier 1: Digi-Key; Supplier Part Number 1: MSP430F5438AIZQWR-ND; Supplier 2: Newark; Supplier Part Number 2: 68R9306; Supplier 3: Mouser; Supplier Part Number 3: 595-SP430F5438AIZQWR; Eco-Plan: Green (RoHS & no Sb/Br); Real-Time Clock: Yes; SVS: Yes; Temp Sensor: Yes; Timers - 16-bit: 3; USCI_B (I2C & SPI): 4; Watchdog: Yes; Mounting Technology: Surface Mount; Code_JEDEC: MO-225; ComponentLink1Description: Manufacturer URL; ComponentLink1URL: http://www.ti.com/; ComponentLink2Description: Datasheet; ComponentLink2URL: http://www.ti.com/general/docs/lit/getliterature.tsp?genericPartNumber=MSP430F5438A&fileType=pdf; ComponentLink3Description: Package Specification; ComponentLink3URL: http://www.ti.com/lit/ml/mpbg674/mpbg674.pdf
footprint TI-ZQW113 (BGA, 113-Balls, Body 7x7mm, Pitch 0.5mm)
part A pins: A1 P6.4/A4 (io), A2 P6.2/A2 (io), A3 ~{RST}/NMI/SBWTDIO (io), A4 PJ.1/TDI/TCLK (io), A5 P5.3/XT2OUT (io), A6 P5.2/XT2IN (io), A7 P11.2/SMCLK (io), A8 P11.0/ACLK (io), A9 P10.6 (io) "General-purpose digital I/O", A10 P10.4/UCA3TXD/UCA3SIMO (io), A11 P10.1/UCB3SIMO/UCB3SDA (io), A12 P9.7 (io) "General-purpose digital I/O", B1 P6.6/A6 (io), B2 P6.3/A3 (io), B3 P6.1/A1 (io), B4 PJ.3/TCK (io), B5 PJ.0/TDO (io), B6 DVSS4 (power) "Digital ground supply", B7 DVCC4 (power) "Digital power supply", B8 P10.7 (io) "General-purpose digital I/O", B9 P10.5/UCA3RXD/UCA3SOMI (io), B10 P10.3/UCB3CLK/UCA3STE (io), B11 P9.6 (io) "General-purpose digital I/O", B12 P9.5/UCA2RXD/UCA2SOMI (io), C1 P7.5/A13 (io), C2 P6.7/A7 (io), C11 P9.4/UCA2TXD/UCA2SIMO (io), C12 P9.2/UCB2SOMI/UCB2SCL (io), D1 P5.0/A8/VREF+/VEREF+ (io), D2 P7.6/A14 (io), D4 P6.0/A0 (io), D5 PJ.2/TMS (io), D6 TEST/SBWTCK (in), D7 P11.1/MCLK (io), D8 P10.2/UCB3SOMI/UCB3SCL (io), D9 P10.0/UCB3STE/UCA3CLK (io), D11 P9.0/UCB2STE/UCA2CLK (io), D12 P8.7 (io) "General-purpose digital I/O", E1 P5.1/A9/VREF-/VEREF- (io), E2 AVCC (power) "Analog power supply", E4 P6.5/A5 (io), E9 P9.3/UCB2CLK/UCA2STE (io), E11 P8.6/TA1.1 (io), E12 DVCC2 (power) "Digital power supply", F1 P7.0/XIN (io), F2 AVSS (power) "Analog ground supply", F4 P7.4/A12 (io), F9 P9.1/UCB2SIMO/UCB2SDA (io), F11 P8.5/TA1.0 (io), F12 DVSS2 (power) "Digital ground supply", G1 P7.1/XOUT (io), G2 DVSS1 (power) "Digital ground supply", G4 P7.7/A15 (io), G9 P8.3/TA0.3 (io), G11 P8.4/TA0.4 (io), G12 VCORE "Regulated core power supply output (internal usage only, no external current loading)", H1 P1.0/TA0CLK/ACLK (io), H2 DVCC1 (power) "Digital power supply", H4 P1.1/TA0.0 (io), H9 P8.0/TA0.0 (io), H11 P8.1/TA0.1 (io), H12 P8.2/TA0.2 (io), J1 P1.3/TA0.2 (io), J2 P1.4/TA0.3 (io), J4 P1.2/TA0.1 (io), J5 P2.7/ADC12CLK/DMAE0 (io), J6 P3.2/UCB0SOMI/UCB0SCL (io), J7 P3.5/UCA0RXD/UCA0SOMI (io), J8 P4.0/TB0.0 (io), J9 P5.5/UCB1CLK/UCA1STE (io), J11 P7.2/TB0OUTH/SVMOUT (io), J12 P7.3/TA1.2 (io), K1 P1.5/TA0.4 (io), K2 P1.6/SMCLK (io), K11 P5.6/UCA1TXD/UCA1SIMO (io), K12 P5.7/UCA1RXD/UCA1SOMI (io), L1 P1.7 (io) "General-purpose digital I/O with port interrupt", L2 P2.1/TA1.0 (io), L3 P2.3/TA1.2 (io), L4 P2.5 (io) "General-purpose digital I/O with port interrupt", L5 P3.0/UCB0STE/UCA0CLK (io), L6 P3.3/UCB0CLK/UCA0STE (io), L7 P3.4/UCA0TXD/UCA0SIMO (io), L8 P3.7/UCB1SIMO/UCB1SDA (io), L9 P4.2/TB0.2 (io), L10 P4.3/TB0.3 (io), L11 P4.5/TB0.5 (io), L12 P5.4/UCB1SOMI/UCB1SCL (io), M1 P2.0/TA1CLK/MCLK (io), M2 P2.2/TA1.1 (io), M3 P2.4/RTCCLK (io), M4 P2.6/ACLK (io), M5 P3.1/UCB0SIMO/UCB0SDA (io), M6 DVSS3 (power) "Digital ground supply", M7 DVCC3 (power) "Digital power supply", M8 P3.6/UCB1STE/UCA1CLK (io), M9 P4.1/TB0.1 (io), M10 P4.4/TB0.4 (io), M11 P4.6/TB0.6 (io), M12 P4.7/TB0CLK/SMCLK (io)
part B pins: C3 RESERVED "Reserved and should be connected to ground.", E5 RESERVED "Reserved and should be connected to ground.", E6 RESERVED "Reserved and should be connected to ground.", E7 RESERVED "Reserved and should be connected to ground.", E8 RESERVED "Reserved and should be connected to ground.", F5 RESERVED "Reserved and should be connected to ground.", F8 RESERVED "Reserved and should be connected to ground.", G5 RESERVED "Reserved and should be connected to ground.", G8 RESERVED "Reserved and should be connected to ground.", H5 RESERVED "Reserved and should be connected to ground.", H6 RESERVED "Reserved and should be connected to ground.", H7 RESERVED "Reserved and should be connected to ground.", H8 RESERVED "Reserved and should be connected to ground."

## MSP430F5500IRGZR
designator U?
25 MHz Mixed Signal Microcontroller with 8 KB Flash, 4096 B SRAM and 31 GPIOs, -40 to 85 degC, 48-pin QFN (RGZ), Green (RoHS & no Sb/Br); Manufacturer: Texas Instruments; PartNumber: MSP430F5500IRGZR; Brown Out Reset: Yes; DMA: 3; Flash(KB): 8; Frequency(MHz): 25; GPIO: 31; Multiplier: 32x32; SRAM(B): 4096; SubFamily: 5 Series; Timers - 16-bit: 4; USB: 1; DatasheetVersion: SLAS645G; PackageVersion: 4204101/F; PackageReference: RGZ48-5150X5150TP; PackageDescription: 48-Pin Plastic Flat Pack, Body 7 x 7 mm, Pitch 0.5 mm; Supplier 1: Digi-Key; Supplier Part Number 1: 296-30375-2-ND; Supplier 2: Digi-Key; Supplier Part Number 2: 296-30375-1-ND; Supplier 3: Digi-Key; Supplier Part Number 3: 296-30375-6-ND; Supplier 4: Newark; Supplier Part Number 4: 68R9307; Supplier 5: Mouser; Supplier Part Number 5: 595-SP430F5438AIZQWT; Comparators: Yes; Eco-Plan: Green (RoHS & no Sb/Br); Real-Time Clock: Yes; SVS: Yes; USCI_A (UART/LIN/IrDA/SPI): 1; USCI_B (I2C & SPI): 1; Watchdog: Yes; Mounting Technology: Surface Mount; Code_JEDEC: MO-220; ComponentLink1Description: Manufacturer URL; ComponentLink1URL: http://www.ti.com/; ComponentLink2Description: Datasheet; ComponentLink2URL: http://www.ti.com/general/docs/lit/getliterature.tsp?genericPartNumber=MSP430F5500&fileType=pdf; ComponentLink3Description: Package Specification; ComponentLink3URL: http://www.ti.com/lit/ml/mpqf123e/mpqf123e.pdf
footprint TI-RGZ48-5150X5150TP_N (QFN, 48-Leads, Body 7x7mm, Pitch 0.5mm, Thermal Pad 5.15X5.15mm, IPC Medium Density)
pins: 1 P6.0/CB0 (io), 2 P6.1/CB1 (io), 3 P6.2/CB2 (io), 4 P6.3/CB3 (io), 5 P5.0 (io) "General-purpose digital I/O", 6 P5.1 (io) "General-purpose digital I/O", 7 AVCC1 (power) "Analog power supply", 8 P5.4/XIN (io), 9 P5.5/XOUT (io), 10 AVSS1 (power) "Analog ground supply", 11 DVCC1 (power) "Digital power supply", 12 DVSS1 (power) "Digital ground supply", 13 VCORE "Regulated core power supply output (internal use only, no external current loading)", 14 P1.0/TA0CLK/ACLK (io), 15 P1.1/TA0.0 (io), 16 P1.2/TA0.1 (io), 17 P1.3/TA0.2 (io), 18 P1.4/TA0.3 (io), 19 P1.5/TA0.4 (io), 20 P1.6/TA1CLK/CBOUT (io), 21 P1.7/TA1.0 (io), 22 P2.0/TA1.1 (io), 23 PJ.0/TDO (io), 24 PJ.1/TDI/TCLK (io), 25 PJ.2/TMS (io), 26 PJ.3/TCK (io), 27 DVSS2 (power) "Digital ground supply", 28 DVCC2 (power) "Digital power supply", 29 P4.0/PM_UCB1STE/PM_UCA1CLK (io), 30 P4.1/PM_UCB1SIMO/PM_UCB1SDA (io), 31 P4.2/PM_UCB1SOMI/PM_UCB1SCL (io), 32 P4.3/PM_UCB1CLK/PM_UCA1STE (io), 33 P4.4/PM_UCA1TXD/PM_UCA1SIMO (io), 34 P4.5/PM_UCA1RXD/PM_UCA1SOMI (io), 35 P4.6/PM_NONE (io), 36 P4.7/PM_NONE (io), 37 VSSU (power) "USB PHY ground supply", 38 PU.0/DP (io), 39 PUR "USB pullup resistor pin (open drain). The voltage level at the PUR pin is PUR 51 39 B7 I/O used to invoke the default USB BSL. Recommended 1-Mohm resistor to ground.", 40 PU.1/DM (io), 41 VBUS (power) "USB LDO input (connect to USB power source)", 42 VUSB (power) "USB LDO output", 43 V18 "USB regulated power (internal use only, no external current loading)", 44 AVSS2 (power) "Analog ground supply", 45 P5.2/XT2IN (io), 46 P5.3/XT2OUT (io), 47 TEST/SBWTCK (in), 48 ~{RST}/NMI/SBWTDIO (io), 49 QFN PAD (power) "Exposed QFN package pad. Connection to VSS recommended (not available on PT package devices)"

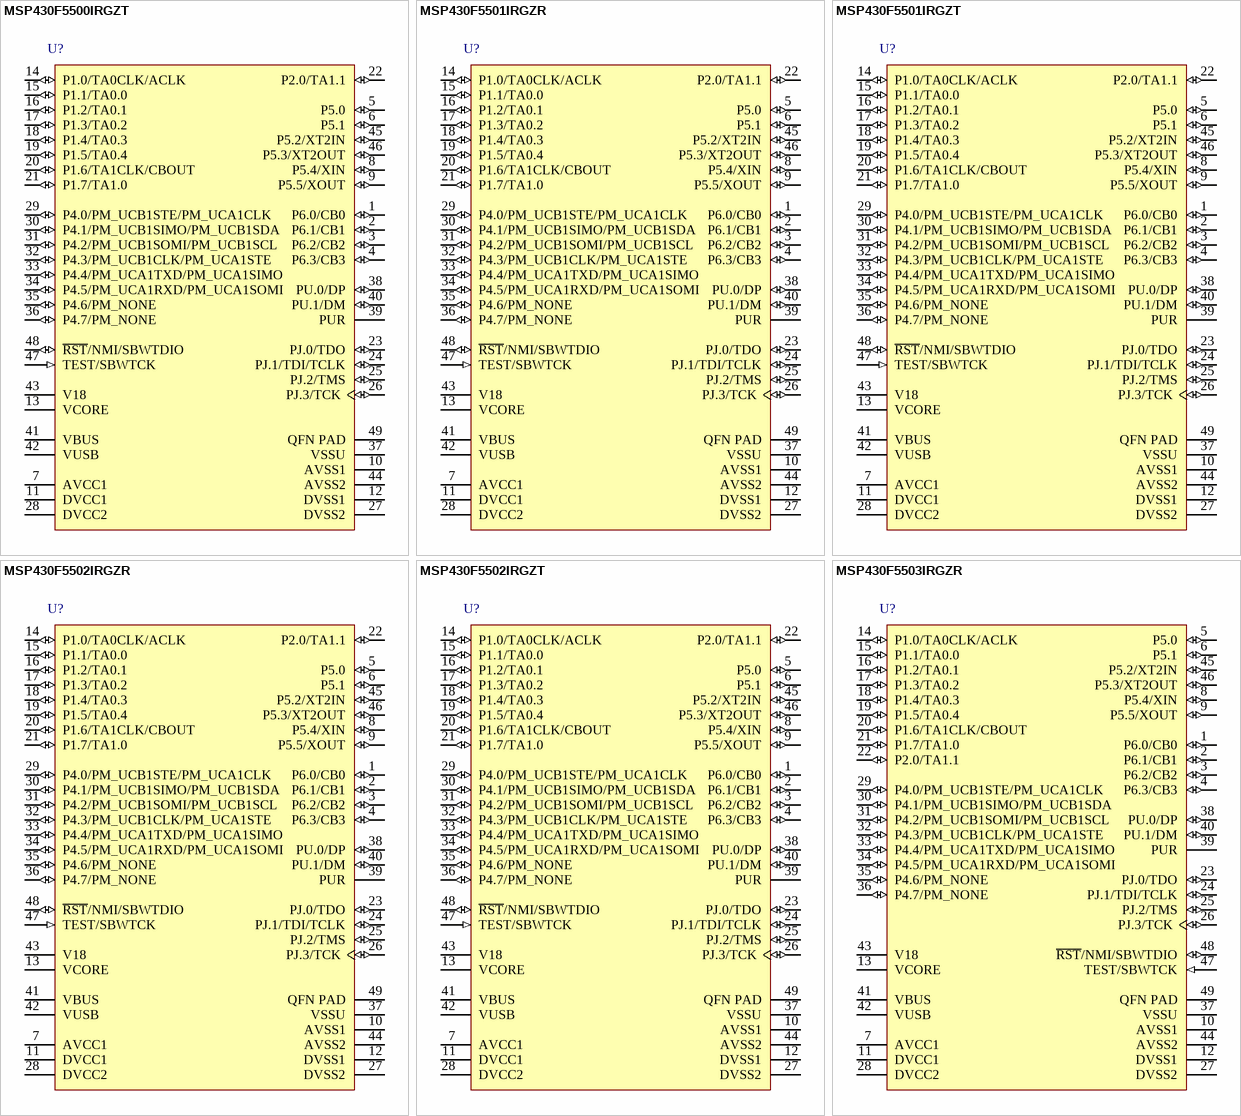
[diagram p113: symbols MSP430F5500IRGZT to MSP430F5503IRGZR]

## MSP430F5500IRGZT
designator U?
25 MHz Mixed Signal Microcontroller with 8 KB Flash, 4096 B SRAM and 31 GPIOs, -40 to 85 degC, 48-pin QFN (RGZ), Green (RoHS & no Sb/Br); Manufacturer: Texas Instruments; PartNumber: MSP430F5500IRGZT; Brown Out Reset: Yes; DMA: 3; Flash(KB): 8; Frequency(MHz): 25; GPIO: 31; Multiplier: 32x32; SRAM(B): 4096; SubFamily: 5 Series; Timers - 16-bit: 4; USB: 1; DatasheetVersion: SLAS645G; PackageVersion: 4204101/F; PackageReference: RGZ48-5150X5150TP; PackageDescription: 48-Pin Plastic Flat Pack, Body 7 x 7 mm, Pitch 0.5 mm; Supplier 1: Digi-Key; Supplier Part Number 1: 296-27553-2-ND; Supplier 2: Digi-Key; Supplier Part Number 2: 296-27553-1-ND; Supplier 3: Digi-Key; Supplier Part Number 3: 296-27553-6-ND; Supplier 4: Farnell; Supplier Part Number 4: 1972383; Supplier 5: Newark; Supplier Part Number 5: 27T6606; Supplier 6: Mouser; Supplier Part Number 6: 595-MSP430F5500IRGZR; Comparators: Yes; Eco-Plan: Green (RoHS & no Sb/Br); Real-Time Clock: Yes; SVS: Yes; USCI_A (UART/LIN/IrDA/SPI): 1; USCI_B (I2C & SPI): 1; Watchdog: Yes; Mounting Technology: Surface Mount; Code_JEDEC: MO-220; ComponentLink1Description: Manufacturer URL; ComponentLink1URL: http://www.ti.com/; ComponentLink2Description: Datasheet; ComponentLink2URL: http://www.ti.com/general/docs/lit/getliterature.tsp?genericPartNumber=MSP430F5500&fileType=pdf; ComponentLink3Description: Package Specification; ComponentLink3URL: http://www.ti.com/lit/ml/mpqf123e/mpqf123e.pdf
footprint TI-RGZ48-5150X5150TP_N (QFN, 48-Leads, Body 7x7mm, Pitch 0.5mm, Thermal Pad 5.15X5.15mm, IPC Medium Density)
pins: 1 P6.0/CB0 (io), 2 P6.1/CB1 (io), 3 P6.2/CB2 (io), 4 P6.3/CB3 (io), 5 P5.0 (io) "General-purpose digital I/O", 6 P5.1 (io) "General-purpose digital I/O", 7 AVCC1 (power) "Analog power supply", 8 P5.4/XIN (io), 9 P5.5/XOUT (io), 10 AVSS1 (power) "Analog ground supply", 11 DVCC1 (power) "Digital power supply", 12 DVSS1 (power) "Digital ground supply", 13 VCORE "Regulated core power supply output (internal use only, no external current loading)", 14 P1.0/TA0CLK/ACLK (io), 15 P1.1/TA0.0 (io), 16 P1.2/TA0.1 (io), 17 P1.3/TA0.2 (io), 18 P1.4/TA0.3 (io), 19 P1.5/TA0.4 (io), 20 P1.6/TA1CLK/CBOUT (io), 21 P1.7/TA1.0 (io), 22 P2.0/TA1.1 (io), 23 PJ.0/TDO (io), 24 PJ.1/TDI/TCLK (io), 25 PJ.2/TMS (io), 26 PJ.3/TCK (io), 27 DVSS2 (power) "Digital ground supply", 28 DVCC2 (power) "Digital power supply", 29 P4.0/PM_UCB1STE/PM_UCA1CLK (io), 30 P4.1/PM_UCB1SIMO/PM_UCB1SDA (io), 31 P4.2/PM_UCB1SOMI/PM_UCB1SCL (io), 32 P4.3/PM_UCB1CLK/PM_UCA1STE (io), 33 P4.4/PM_UCA1TXD/PM_UCA1SIMO (io), 34 P4.5/PM_UCA1RXD/PM_UCA1SOMI (io), 35 P4.6/PM_NONE (io), 36 P4.7/PM_NONE (io), 37 VSSU (power) "USB PHY ground supply", 38 PU.0/DP (io), 39 PUR "USB pullup resistor pin (open drain). The voltage level at the PUR pin is PUR 51 39 B7 I/O used to invoke the default USB BSL. Recommended 1-Mohm resistor to ground.", 40 PU.1/DM (io), 41 VBUS (power) "USB LDO input (connect to USB power source)", 42 VUSB (power) "USB LDO output", 43 V18 "USB regulated power (internal use only, no external current loading)", 44 AVSS2 (power) "Analog ground supply", 45 P5.2/XT2IN (io), 46 P5.3/XT2OUT (io), 47 TEST/SBWTCK (in), 48 ~{RST}/NMI/SBWTDIO (io), 49 QFN PAD (power) "Exposed QFN package pad. Connection to VSS recommended (not available on PT package devices)"

## MSP430F5501IRGZR
designator U?
25 MHz Mixed Signal Microcontroller with 16 KB Flash, 4096 B SRAM and 31 GPIOs, -40 to 85 degC, 48-pin QFN (RGZ), Green (RoHS & no Sb/Br); Manufacturer: Texas Instruments; PartNumber: MSP430F5501IRGZR; Brown Out Reset: Yes; DMA: 3; Flash(KB): 16; Frequency(MHz): 25; GPIO: 31; Multiplier: 32x32; SRAM(B): 4096; SubFamily: 5 Series; Timers - 16-bit: 4; USB: 1; DatasheetVersion: SLAS645G; PackageVersion: 4204101/F; PackageReference: RGZ48-5150X5150TP; PackageDescription: 48-Pin Plastic Flat Pack, Body 7 x 7 mm, Pitch 0.5 mm; Supplier 1: Digi-Key; Supplier Part Number 1: MSP430F5500IRGZT-ND; Supplier 2: Farnell; Supplier Part Number 2: 2008933; Supplier 3: Newark; Supplier Part Number 3: 45T9764; Supplier 4: Mouser; Supplier Part Number 4: 595-MSP430F5500IRGZT; Comparators: Yes; Eco-Plan: Green (RoHS & no Sb/Br); Real-Time Clock: Yes; SVS: Yes; USCI_A (UART/LIN/IrDA/SPI): 1; USCI_B (I2C & SPI): 1; Watchdog: Yes; Mounting Technology: Surface Mount; Code_JEDEC: MO-220; ComponentLink1Description: Manufacturer URL; ComponentLink1URL: http://www.ti.com/; ComponentLink2Description: Datasheet; ComponentLink2URL: http://www.ti.com/general/docs/lit/getliterature.tsp?genericPartNumber=MSP430F5501&fileType=pdf; ComponentLink3Description: Package Specification; ComponentLink3URL: http://www.ti.com/lit/ml/mpqf123e/mpqf123e.pdf
footprint TI-RGZ48-5150X5150TP_N (QFN, 48-Leads, Body 7x7mm, Pitch 0.5mm, Thermal Pad 5.15X5.15mm, IPC Medium Density)
pins: 1 P6.0/CB0 (io), 2 P6.1/CB1 (io), 3 P6.2/CB2 (io), 4 P6.3/CB3 (io), 5 P5.0 (io) "General-purpose digital I/O", 6 P5.1 (io) "General-purpose digital I/O", 7 AVCC1 (power) "Analog power supply", 8 P5.4/XIN (io), 9 P5.5/XOUT (io), 10 AVSS1 (power) "Analog ground supply", 11 DVCC1 (power) "Digital power supply", 12 DVSS1 (power) "Digital ground supply", 13 VCORE "Regulated core power supply output (internal use only, no external current loading)", 14 P1.0/TA0CLK/ACLK (io), 15 P1.1/TA0.0 (io), 16 P1.2/TA0.1 (io), 17 P1.3/TA0.2 (io), 18 P1.4/TA0.3 (io), 19 P1.5/TA0.4 (io), 20 P1.6/TA1CLK/CBOUT (io), 21 P1.7/TA1.0 (io), 22 P2.0/TA1.1 (io), 23 PJ.0/TDO (io), 24 PJ.1/TDI/TCLK (io), 25 PJ.2/TMS (io), 26 PJ.3/TCK (io), 27 DVSS2 (power) "Digital ground supply", 28 DVCC2 (power) "Digital power supply", 29 P4.0/PM_UCB1STE/PM_UCA1CLK (io), 30 P4.1/PM_UCB1SIMO/PM_UCB1SDA (io), 31 P4.2/PM_UCB1SOMI/PM_UCB1SCL (io), 32 P4.3/PM_UCB1CLK/PM_UCA1STE (io), 33 P4.4/PM_UCA1TXD/PM_UCA1SIMO (io), 34 P4.5/PM_UCA1RXD/PM_UCA1SOMI (io), 35 P4.6/PM_NONE (io), 36 P4.7/PM_NONE (io), 37 VSSU (power) "USB PHY ground supply", 38 PU.0/DP (io), 39 PUR "USB pullup resistor pin (open drain). The voltage level at the PUR pin is PUR 51 39 B7 I/O used to invoke the default USB BSL. Recommended 1-Mohm resistor to ground.", 40 PU.1/DM (io), 41 VBUS (power) "USB LDO input (connect to USB power source)", 42 VUSB (power) "USB LDO output", 43 V18 "USB regulated power (internal use only, no external current loading)", 44 AVSS2 (power) "Analog ground supply", 45 P5.2/XT2IN (io), 46 P5.3/XT2OUT (io), 47 TEST/SBWTCK (in), 48 ~{RST}/NMI/SBWTDIO (io), 49 QFN PAD (power) "Exposed QFN package pad. Connection to VSS recommended (not available on PT package devices)"

## MSP430F5501IRGZT
designator U?
25 MHz Mixed Signal Microcontroller with 16 KB Flash, 4096 B SRAM and 31 GPIOs, -40 to 85 degC, 48-pin QFN (RGZ), Green (RoHS & no Sb/Br); Manufacturer: Texas Instruments; PartNumber: MSP430F5501IRGZT; Brown Out Reset: Yes; DMA: 3; Flash(KB): 16; Frequency(MHz): 25; GPIO: 31; Multiplier: 32x32; SRAM(B): 4096; SubFamily: 5 Series; Timers - 16-bit: 4; USB: 1; DatasheetVersion: SLAS645G; PackageVersion: 4204101/F; PackageReference: RGZ48-5150X5150TP; PackageDescription: 48-Pin Plastic Flat Pack, Body 7 x 7 mm, Pitch 0.5 mm; Supplier 1: Digi-Key; Supplier Part Number 1: 296-27555-2-ND; Supplier 2: Digi-Key; Supplier Part Number 2: 296-27555-1-ND; Supplier 3: Digi-Key; Supplier Part Number 3: 296-27555-6-ND; Supplier 4: Newark; Supplier Part Number 4: 24T4625; Supplier 5: Mouser; Supplier Part Number 5: 595-MSP430F5501IRGZR; Comparators: Yes; Eco-Plan: Green (RoHS & no Sb/Br); Real-Time Clock: Yes; SVS: Yes; USCI_A (UART/LIN/IrDA/SPI): 1; USCI_B (I2C & SPI): 1; Watchdog: Yes; Mounting Technology: Surface Mount; Code_JEDEC: MO-220; ComponentLink1Description: Manufacturer URL; ComponentLink1URL: http://www.ti.com/; ComponentLink2Description: Datasheet; ComponentLink2URL: http://www.ti.com/general/docs/lit/getliterature.tsp?genericPartNumber=MSP430F5501&fileType=pdf; ComponentLink3Description: Package Specification; ComponentLink3URL: http://www.ti.com/lit/ml/mpqf123e/mpqf123e.pdf
footprint TI-RGZ48-5150X5150TP_N (QFN, 48-Leads, Body 7x7mm, Pitch 0.5mm, Thermal Pad 5.15X5.15mm, IPC Medium Density)
pins: 1 P6.0/CB0 (io), 2 P6.1/CB1 (io), 3 P6.2/CB2 (io), 4 P6.3/CB3 (io), 5 P5.0 (io) "General-purpose digital I/O", 6 P5.1 (io) "General-purpose digital I/O", 7 AVCC1 (power) "Analog power supply", 8 P5.4/XIN (io), 9 P5.5/XOUT (io), 10 AVSS1 (power) "Analog ground supply", 11 DVCC1 (power) "Digital power supply", 12 DVSS1 (power) "Digital ground supply", 13 VCORE "Regulated core power supply output (internal use only, no external current loading)", 14 P1.0/TA0CLK/ACLK (io), 15 P1.1/TA0.0 (io), 16 P1.2/TA0.1 (io), 17 P1.3/TA0.2 (io), 18 P1.4/TA0.3 (io), 19 P1.5/TA0.4 (io), 20 P1.6/TA1CLK/CBOUT (io), 21 P1.7/TA1.0 (io), 22 P2.0/TA1.1 (io), 23 PJ.0/TDO (io), 24 PJ.1/TDI/TCLK (io), 25 PJ.2/TMS (io), 26 PJ.3/TCK (io), 27 DVSS2 (power) "Digital ground supply", 28 DVCC2 (power) "Digital power supply", 29 P4.0/PM_UCB1STE/PM_UCA1CLK (io), 30 P4.1/PM_UCB1SIMO/PM_UCB1SDA (io), 31 P4.2/PM_UCB1SOMI/PM_UCB1SCL (io), 32 P4.3/PM_UCB1CLK/PM_UCA1STE (io), 33 P4.4/PM_UCA1TXD/PM_UCA1SIMO (io), 34 P4.5/PM_UCA1RXD/PM_UCA1SOMI (io), 35 P4.6/PM_NONE (io), 36 P4.7/PM_NONE (io), 37 VSSU (power) "USB PHY ground supply", 38 PU.0/DP (io), 39 PUR "USB pullup resistor pin (open drain). The voltage level at the PUR pin is PUR 51 39 B7 I/O used to invoke the default USB BSL. Recommended 1-Mohm resistor to ground.", 40 PU.1/DM (io), 41 VBUS (power) "USB LDO input (connect to USB power source)", 42 VUSB (power) "USB LDO output", 43 V18 "USB regulated power (internal use only, no external current loading)", 44 AVSS2 (power) "Analog ground supply", 45 P5.2/XT2IN (io), 46 P5.3/XT2OUT (io), 47 TEST/SBWTCK (in), 48 ~{RST}/NMI/SBWTDIO (io), 49 QFN PAD (power) "Exposed QFN package pad. Connection to VSS recommended (not available on PT package devices)"

## MSP430F5502IRGZR
designator U?
25 MHz Mixed Signal Microcontroller with 24 KB Flash, 4096 B SRAM and 31 GPIOs, -40 to 85 degC, 48-pin QFN (RGZ), Green (RoHS & no Sb/Br); Manufacturer: Texas Instruments; PartNumber: MSP430F5502IRGZR; Brown Out Reset: Yes; DMA: 3; Flash(KB): 24; Frequency(MHz): 25; GPIO: 31; Multiplier: 32x32; SRAM(B): 4096; SubFamily: 5 Series; Timers - 16-bit: 4; USB: 1; DatasheetVersion: SLAS645G; PackageVersion: 4204101/F; PackageReference: RGZ48-5150X5150TP; PackageDescription: 48-Pin Plastic Flat Pack, Body 7 x 7 mm, Pitch 0.5 mm; Supplier 1: Digi-Key; Supplier Part Number 1: MSP430F5501IRGZT-ND; Supplier 2: Farnell; Supplier Part Number 2: 1866791; Supplier 3: Newark; Supplier Part Number 3: 47T2192; Supplier 4: Mouser; Supplier Part Number 4: 595-MSP430F5501IRGZT; Comparators: Yes; Eco-Plan: Green (RoHS & no Sb/Br); Real-Time Clock: Yes; SVS: Yes; USCI_A (UART/LIN/IrDA/SPI): 1; USCI_B (I2C & SPI): 1; Watchdog: Yes; Mounting Technology: Surface Mount; Code_JEDEC: MO-220; ComponentLink1Description: Manufacturer URL; ComponentLink1URL: http://www.ti.com/; ComponentLink2Description: Datasheet; ComponentLink2URL: http://www.ti.com/general/docs/lit/getliterature.tsp?genericPartNumber=MSP430F5502&fileType=pdf; ComponentLink3Description: Package Specification; ComponentLink3URL: http://www.ti.com/lit/ml/mpqf123e/mpqf123e.pdf
footprint TI-RGZ48-5150X5150TP_N (QFN, 48-Leads, Body 7x7mm, Pitch 0.5mm, Thermal Pad 5.15X5.15mm, IPC Medium Density)
pins: 1 P6.0/CB0 (io), 2 P6.1/CB1 (io), 3 P6.2/CB2 (io), 4 P6.3/CB3 (io), 5 P5.0 (io) "General-purpose digital I/O", 6 P5.1 (io) "General-purpose digital I/O", 7 AVCC1 (power) "Analog power supply", 8 P5.4/XIN (io), 9 P5.5/XOUT (io), 10 AVSS1 (power) "Analog ground supply", 11 DVCC1 (power) "Digital power supply", 12 DVSS1 (power) "Digital ground supply", 13 VCORE "Regulated core power supply output (internal use only, no external current loading)", 14 P1.0/TA0CLK/ACLK (io), 15 P1.1/TA0.0 (io), 16 P1.2/TA0.1 (io), 17 P1.3/TA0.2 (io), 18 P1.4/TA0.3 (io), 19 P1.5/TA0.4 (io), 20 P1.6/TA1CLK/CBOUT (io), 21 P1.7/TA1.0 (io), 22 P2.0/TA1.1 (io), 23 PJ.0/TDO (io), 24 PJ.1/TDI/TCLK (io), 25 PJ.2/TMS (io), 26 PJ.3/TCK (io), 27 DVSS2 (power) "Digital ground supply", 28 DVCC2 (power) "Digital power supply", 29 P4.0/PM_UCB1STE/PM_UCA1CLK (io), 30 P4.1/PM_UCB1SIMO/PM_UCB1SDA (io), 31 P4.2/PM_UCB1SOMI/PM_UCB1SCL (io), 32 P4.3/PM_UCB1CLK/PM_UCA1STE (io), 33 P4.4/PM_UCA1TXD/PM_UCA1SIMO (io), 34 P4.5/PM_UCA1RXD/PM_UCA1SOMI (io), 35 P4.6/PM_NONE (io), 36 P4.7/PM_NONE (io), 37 VSSU (power) "USB PHY ground supply", 38 PU.0/DP (io), 39 PUR "USB pullup resistor pin (open drain). The voltage level at the PUR pin is PUR 51 39 B7 I/O used to invoke the default USB BSL. Recommended 1-Mohm resistor to ground.", 40 PU.1/DM (io), 41 VBUS (power) "USB LDO input (connect to USB power source)", 42 VUSB (power) "USB LDO output", 43 V18 "USB regulated power (internal use only, no external current loading)", 44 AVSS2 (power) "Analog ground supply", 45 P5.2/XT2IN (io), 46 P5.3/XT2OUT (io), 47 TEST/SBWTCK (in), 48 ~{RST}/NMI/SBWTDIO (io), 49 QFN PAD (power) "Exposed QFN package pad. Connection to VSS recommended (not available on PT package devices)"